# Altium schematic symbol library B2B-XH-A(LF)(SN).SchLib: 1 symbol
Pins are listed as number, name and electrical type; pins without a type are passive.

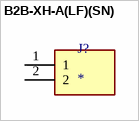
[diagram p0: symbol B2B-XH-A(LF)(SN)]

## B2B-XH-A(LF)(SN)
designator J?
Connector Header Through Hole 2 position 0.098 (2.50mm); MP: B2B-XH-A(LF)(SN); MF: JST Sales; Value: *; Purchase-URL: https://pricing.snapeda.com/search/part/B2B-XH-A(LF)(SN)/?ref=eda; Availability: In Stock; Price: None; Package: None
footprint JST_B2B-XH-A(LF)(SN)
pins: 1, 2